# Altium footprint library CC0603KRX7R9BB104.PcbLib: 3 footprints
Each footprint in its own frame and in the unit in brackets; x right, y up, seen from the top. Pads: shape width x height; smd on the part's side, far side on the other; paste and mask are expansions set on the pad; w line width, h text height; cw(c..) or ccw(c..) is an arc to the next point about the centre after c.
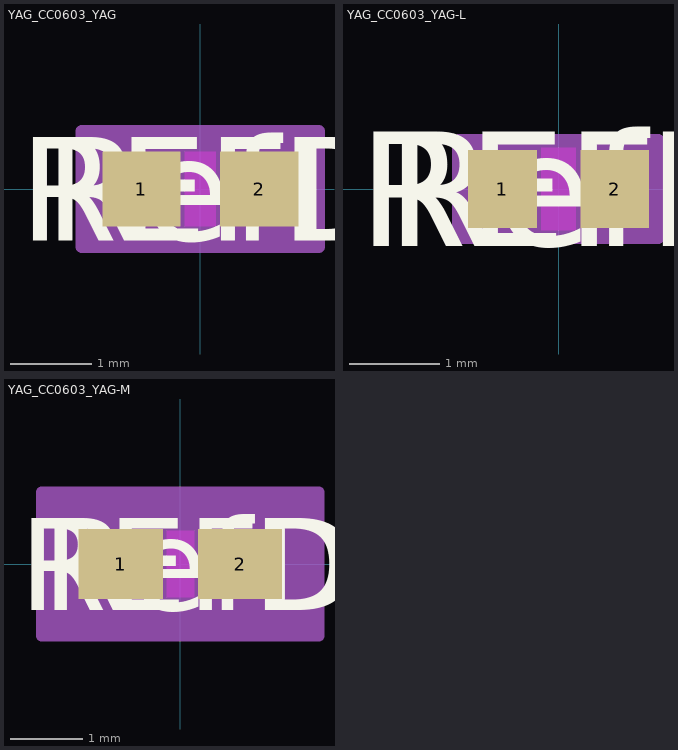
[diagram p0: the footprints below, top view; thin cyan lines are the x and y axes]

## YAG_CC0603_YAG [mil]
pads (2):
  rect 37.78x36 smd paste+0 mask+0: 1(-28.39,0) 2(28.39,0)
Top Layer keep-out:
  region: -7.5,-16 -7.5,16 7.5,16 7.5,-16
Top Overlay:
  text "RefDes" at -75,-25 h50
  text "REFDES" at -87.5,-25 h50
Keep-Out Layer:
  region: -7.5,-18 -7.5,18 7.5,18 7.5,-18
Mechanical 13:
  lines w1: -33.5,-18 -33.5,18 ; -33.5,-18 -9.5,-18 -9.5,18 -33.5,18 ; -33.5,-18 33.5,-18 ; -33.5,-18 -33.5,18 ; -33.5,18 33.5,18 ; 33.5,-18 9.5,-18 9.5,18 33.5,18 ; 33.5,-18 33.5,18 ; 33.5,-18 33.5,18
  text "RefDes2" at -87.5,-25 h50
Mechanical 15:
  region: 57.28,-28 -57.28,-28 -57.28,28 57.28,28
  lines w6: -57.28,-28 -57.28,28 57.28,28 57.28,-28 -57.28,-28
3D body "YAG_CC0603_YAG.step": height 35.98, standoff 0, extent -33.5,-17.99 33.5,17.99

## YAG_CC0603_YAG-L [mil]
pads (2):
  rect 29.91x34.03 smd paste+0 mask+0: 1(-24.45,0) 2(24.45,0)
Top Layer keep-out:
  region: -7.5,-16 -7.5,16 7.5,16 7.5,-16
Top Overlay:
  text "RefDes" at -75,-25 h50
  text "REFDES" at -87.5,-25 h50
Keep-Out Layer:
  region: -7.5,-18 -7.5,18 7.5,18 7.5,-18
Mechanical 13:
  lines w1: -33.5,-18 -33.5,18 ; -33.5,-18 -9.5,-18 -9.5,18 -33.5,18 ; -33.5,-18 33.5,-18 ; -33.5,-18 -33.5,18 ; -33.5,18 33.5,18 ; 33.5,-18 9.5,-18 9.5,18 33.5,18 ; 33.5,-18 33.5,18 ; 33.5,-18 33.5,18
  text "RefDes2" at -87.5,-25 h50
Mechanical 15:
  region: 43.41,-21.02 -43.41,-21.02 -43.41,21.02 43.41,21.02
  lines w6: -43.41,-21.02 -43.41,21.02 43.41,21.02 43.41,-21.02 -43.41,-21.02
3D body "YAG_CC0603_YAG.step": height 35.98, standoff 0, extent -33.5,-17.99 33.5,17.99

## YAG_CC0603_YAG-M [mil]
pads (2):
  rect 45.65x37.97 smd paste+0 mask+0: 1(-32.33,0) 2(32.33,0)
Top Layer keep-out:
  region: -7.5,-16 -7.5,16 7.5,16 7.5,-16
Top Overlay:
  text "RefDes" at -75,-25 h50
  text "REFDES" at -87.5,-25 h50
Keep-Out Layer:
  region: -7.5,-18 -7.5,18 7.5,18 7.5,-18
Mechanical 13:
  lines w1: -33.5,-18 -33.5,18 ; -33.5,-18 -9.5,-18 -9.5,18 -33.5,18 ; -33.5,-18 33.5,-18 ; -33.5,-18 -33.5,18 ; -33.5,18 33.5,18 ; 33.5,-18 9.5,-18 9.5,18 33.5,18 ; 33.5,-18 33.5,18 ; 33.5,-18 33.5,18
  text "RefDes2" at -87.5,-25 h50
Mechanical 15:
  region: 75.15,-38.98 -75.15,-38.98 -75.15,38.98 75.15,38.98
  lines w6: -75.15,-38.98 -75.15,38.98 75.15,38.98 75.15,-38.98 -75.15,-38.98
3D body "YAG_CC0603_YAG.step": height 35.98, standoff 0, extent -33.5,-17.99 33.5,17.99